# EAGLE library part NUF2441FCT1G (library Filters)
FILTER LC(PI) 2.9NH/250PF SMD Manufacturer's datasheet <https://www.onsemi.com/pub/Collateral/NUF2441FC-D.PDF>
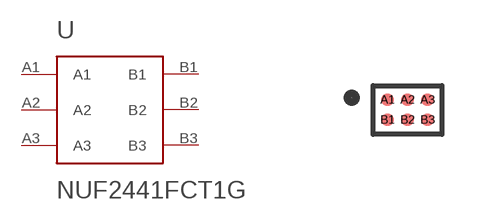
[diagram p7: symbol with the pads of NUF2441FCT1G; footprint NUF2441FCT1G]

Designator prefix U

## NUF2441FCT1G (CREATED_BY: PCBLayout.com; DIGIKEY_PN: NUF2441FCT1GOSDKR-ND; MANUFACTURER: ON Semiconductor; MPN: NUF2441FCT1G; PACKAGE: 6-WFBGA)  [NUF2441FCT1G]
A1  A1
A2  A2
A3  A3
B1  B1
B2  B2
B3  B3

## Footprint NUF2441FCT1G (pad centres in mm)
smd 0.315 x 0.315: A1 -0.5,0.25; A2 0,0.25; A3 0.5,0.25; B1 -0.5,-0.25; B2 0,-0.25; B3 0.5,-0.25